# EAGLE library part RFM69W (library BaseApp)
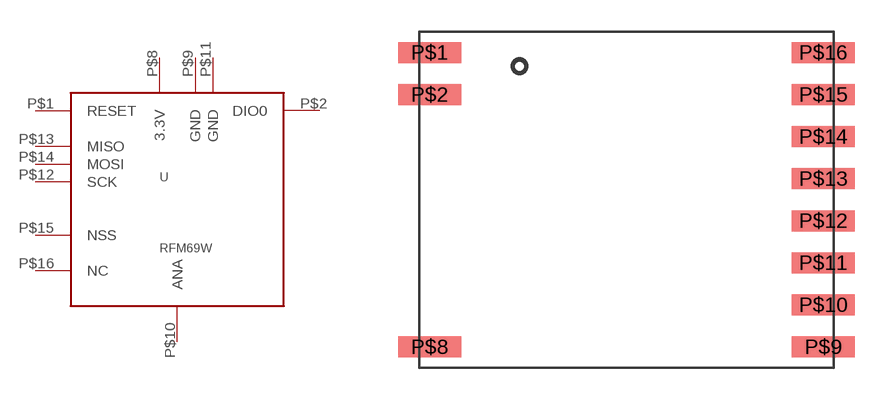
[diagram p129: symbol with the pads of RFM69W; footprint RFM69W]

Designator prefix -

## RFM69W  [RFM69W]
P$1  RESET
P$2  DIO0
P$8  3.3V
P$9  GND
P$10  ANA
P$11  GND
P$12  SCK
P$13  MISO
P$14  MOSI
P$15  NSS
P$16  NC

## Footprint RFM69W (pad centres in mm)
smd 3 x 1: P$1 -9.35,7; P$2 -9.35,5; P$8 -9.35,-7; P$9 9.35,-7; P$10 9.35,-5; P$11 9.35,-3; P$12 9.35,-1; P$13 9.35,1; P$14 9.35,3; P$15 9.35,5; P$16 9.35,7